# Altium footprint library Fuse_Littelfuse_MINISMDC110F-2_eec_0.PcbLib: 1 footprints
Each footprint in its own frame and in the unit in brackets; x right, y up, seen from the top. Pads: shape width x height; smd on the part's side, far side on the other; paste and mask are expansions set on the pad; w line width, h text height; cw(c..) or ccw(c..) is an arc to the next point about the centre after c.
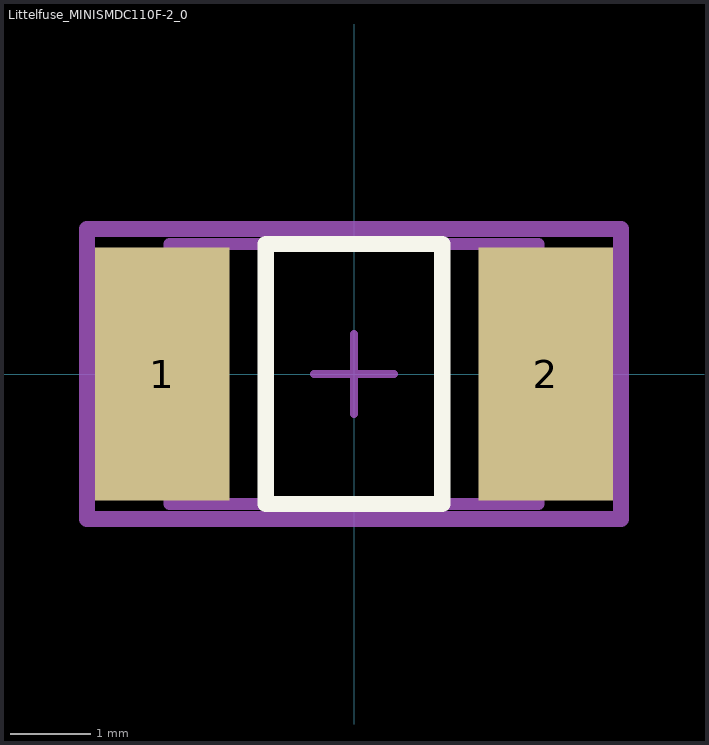
[diagram p0: the footprint, top view; thin cyan lines are the x and y axes]

## Littelfuse_MINISMDC110F-2_0 [mm]
pads (2):
  rect 1.68x3.15 smd paste+0 mask+0: 1(-2.39,0) 2(2.39,0)
Top Overlay:
  lines w0.2: -1.1,-1.62 1.1,-1.62 1.1,1.62 -1.1,1.62 -1.1,-1.62
Mechanical 10:
  lines w0.2: -3.33,-1.805 3.33,-1.805 3.33,1.805 -3.33,1.805 -3.33,-1.805
  text ".Designator" at 0,0 h1
Mechanical 12:
  lines w0.15: -2.3,-1.62 2.3,-1.62 2.3,1.62 -2.3,1.62 -2.3,-1.62
Mechanical 15:
  lines w0.1: -0.5,0 0.5,0 ; 0,-0.5 0,0.5
  lines w0.2: -3.33,-1.805 3.33,-1.805 3.33,1.805 -3.33,1.805 -3.33,-1.805
3D body "3dmodel.step": height 0.25, standoff 0, extent -3.33,-1.805 3.33,1.805